# EAGLE library part AD633* (library AD633)
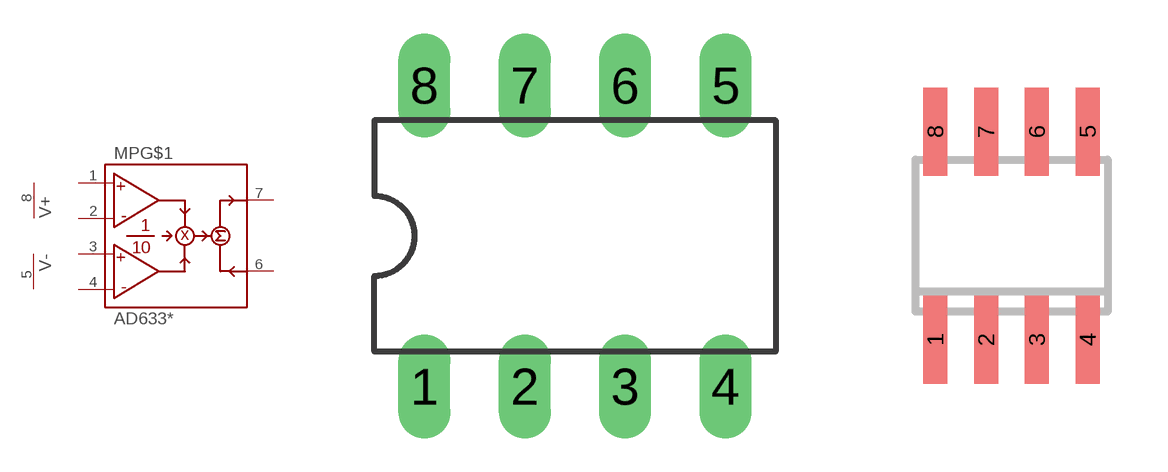
[diagram p0: symbol with the pads of DIL08; footprints DIL08, SO8]

Designator prefix MP; gates G$1=AD633 G$2=PWR

## AD633AN, AD633JN  [DIL08]
1  G$1:X1  in
2  G$1:X2  in
3  G$1:Y1  in
4  G$1:Y2  in
5  G$2:V-  pwr
6  G$1:Z  in
7  G$1:W  out
8  G$2:V+  pwr

## AD633AR, AD633JR  [SO8]
1  G$1:Y1  in
2  G$1:Y2  in
3  G$2:V-  pwr
4  G$1:Z  in
5  G$1:W  out
6  G$2:V+  pwr
7  G$1:X1  in
8  G$1:X2  in

## Footprint DIL08 (pad centres in mm)
Dual In Line Package
drill 0.813 long: 1 -3.81,-3.81; 2 -1.27,-3.81; 3 1.27,-3.81; 4 3.81,-3.81; 5 3.81,3.81; 6 1.27,3.81; 7 -1.27,3.81; 8 -3.81,3.81

## Footprint SO8 (pad centres in mm)
SMALL OUTLINE INTEGRATED CIRCUIT
smd 0.6 x 2.2: 1 -1.905,-2.6; 2 -0.635,-2.6; 3 0.635,-2.6; 4 1.905,-2.6; 5 1.905,2.6; 6 0.635,2.6; 7 -0.635,2.6; 8 -1.905,2.6